# Altium schematic symbol library D_SOD123.SchLib: 1 symbol
Pins are listed as number, name and electrical type; pins without a type are passive.

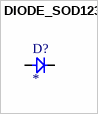
[diagram p0: symbol DIODE_SOD123]

## DIODE_SOD123
designator D?
Manufacturer: *; Manufacturer Part: *; Value: *; Voltage: *
footprint SOD-123
pins: 1, 2